# Altium footprint library ECA-1HM101.PcbLib: 1 footprints
Each footprint in its own frame and in the unit in brackets; x right, y up, seen from the top. Pads: shape width x height; smd on the part's side, far side on the other; paste and mask are expansions set on the pad; w line width, h text height; cw(c..) or ccw(c..) is an arc to the next point about the centre after c.
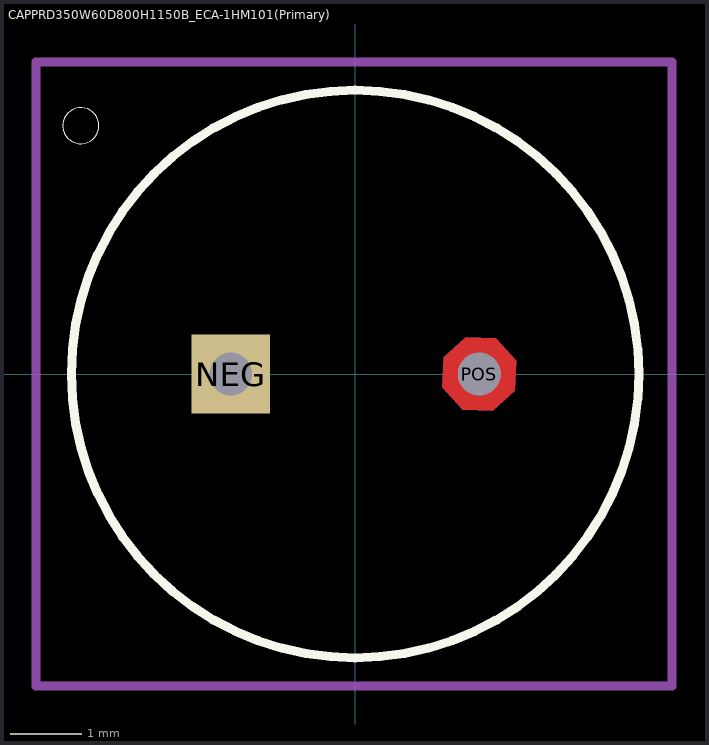
[diagram p0: the footprint, top view; thin cyan lines are the x and y axes]

## CAPPRD350W60D800H1150B_ECA-1HM101(Primary) [mm]
pads (2):
  rect 1.108x1.108 hole 0.6: NEG(-1.75,0)
  round 0.6 hole 0.6: POS(1.75,0)
Top Layer:
  region: 2.271,0.189 1.984,0.502 1.561,0.521 1.248,0.234 1.229,-0.189 1.516,-0.502 1.939,-0.521 2.252,-0.234
Bottom Layer:
  region: 2.271,0.189 1.984,0.502 1.561,0.521 1.248,0.234 1.229,-0.189 1.516,-0.502 1.939,-0.521 2.252,-0.234
Top Overlay:
  circle w0: c-3.865,3.5 r0.254
  circle w0.127: c0,0 r4
Mechanical 1:
  lines w0.127: -4.5,-4.4 -4.5,4.4 4.47,4.4 4.47,-4.4 -4.5,-4.4
Multi-Layer:
  region: 2.271,0.189 1.984,0.502 1.561,0.521 1.248,0.234 1.229,-0.189 1.516,-0.502 1.939,-0.521 2.252,-0.234